# Altium footprint library 691 386 700 0xx.PcbLib: 17 footprints (part 2 of 2)
Each footprint in its own frame and in the unit in brackets; x right, y up, seen from the top. Pads: shape width x height; smd on the part's side, far side on the other; paste and mask are expansions set on the pad; w line width, h text height; cw(c..) or ccw(c..) is an arc to the next point about the centre after c.
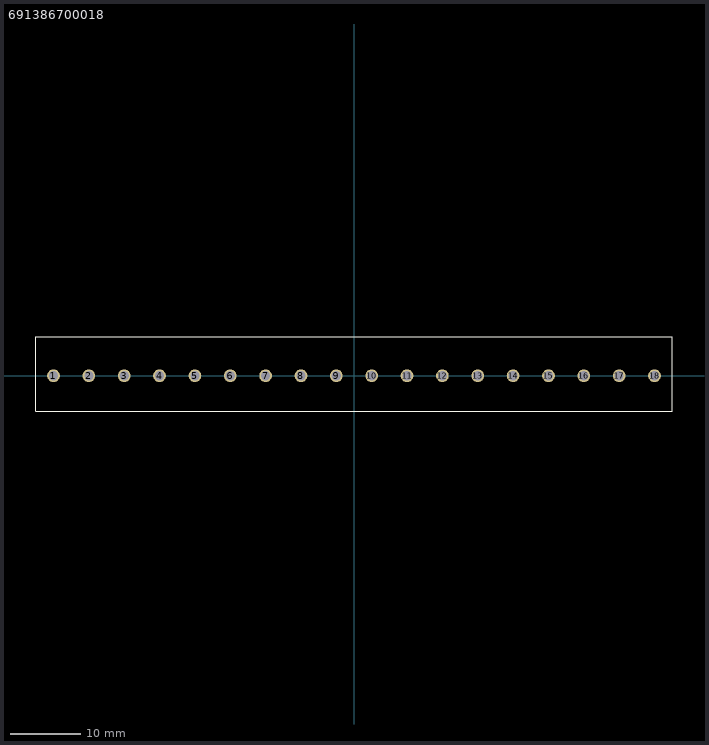
[diagram p1: the footprint, top view; thin cyan lines are the x and y axes]

## 691386700018 [mm] "SERIE 3867 - 5.00 MM - PCB HEADER (HORIZONTAL / VERTICAL) - WR-TBL"
height 10.9
pads (18):
  round 1.8 hole 1.3: 1(-42.5,0) 2(-37.5,0) 3(-32.5,0) 4(-27.5,0) 5(-22.5,0) 6(-17.5,0) 7(-12.5,0) 8(-7.5,0) 9(-2.5,0) 10(2.5,0) 11(7.5,0) 12(12.5,0) 13(17.5,0) 14(22.5,0) 15(27.5,0) 16(32.5,0) 17(37.5,0) 18(42.5,0)
Top Overlay:
  lines w0.152: -45,-5 45,-5 45,5.5 -45,5.5 -45,-5
3D body: height 10.93, standoff -4.07, extent -45,-5 45,5.5